# Altium footprint library SOD.PcbLib: 4 footprints
Each footprint in its own frame and in the unit in brackets; x right, y up, seen from the top. Pads: shape width x height; smd on the part's side, far side on the other; paste and mask are expansions set on the pad; w line width, h text height; cw(c..) or ccw(c..) is an arc to the next point about the centre after c.
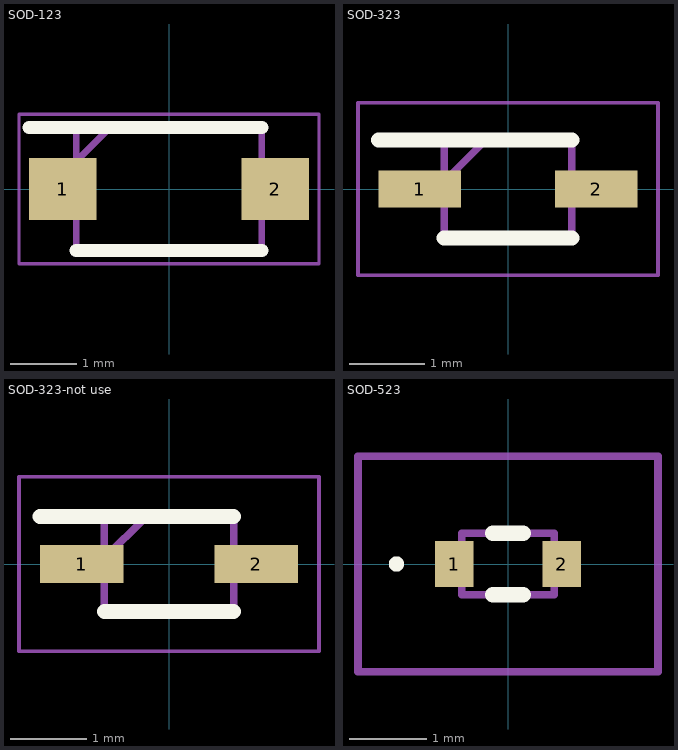
[diagram p0: the footprints below, top view; thin cyan lines are the x and y axes]

## SOD-123 [mm]
pads (2):
  rect 1.02x0.94 smd: 1(-1.6,0) 2(1.6,0)
Top Overlay:
  lines w0.2: -2.11,0.925 1.4,0.925 ; -1.4,-0.925 1.4,-0.925
BOAS 13:
  lines w0.1: -1.4,0.415 -0.89,0.925 ; -1.4,-0.925 1.4,-0.925 1.4,0.925 -1.4,0.925 -1.4,-0.925
Bottom Component Outline:
  lines w0.05: -2.26,-1.125 2.26,-1.125 2.26,1.125 -2.26,1.125 -2.26,-1.125
3D body "1N5817W-T.stp": height 1.35, standoff 0, extent -1.85,-0.925 1.85,0.925

## SOD-323 [mm]
pads (2):
  rect 1.1x0.5 smd: 1(-1.175,0) 2(1.175,0)
Top Overlay:
  lines w0.2: -1.725,0.65 0.85,0.65 ; -0.85,-0.65 0.85,-0.65
BOAS 13:
  lines w0.1: -0.85,0.1 -0.3,0.65 ; -0.85,-0.65 -0.85,0.65 0.85,0.65 0.85,-0.65 -0.85,-0.65
Bottom Component Outline:
  lines w0.05: -2,-1.15 -2,1.15 2,1.15 2,-1.15 -2,-1.15
3D body "B5819WS.stp": height 1, standoff 0, extent -1.3,-0.65 1.3,0.65

## SOD-323-not use [mm]
pads (2):
  rect 1.1x0.5 smd: 1(-1.15,0) 2(1.15,0)
Top Overlay:
  lines w0.2: -1.7,0.625 0.85,0.625 ; -0.85,-0.625 0.85,-0.625
BOAS 13:
  lines w0.1: -0.85,0.075 -0.3,0.625 ; -0.85,-0.625 0.85,-0.625 0.85,0.625 -0.85,0.625 -0.85,-0.625
Bottom Component Outline:
  lines w0.05: -1.975,-1.15 1.975,-1.15 1.975,1.15 -1.975,1.15 -1.975,-1.15
3D body "BAT760,115.stp": height 0.93, standoff 0, extent -1.244,-0.623 1.245,0.627

## SOD-523 [mm]
pads (2):
  rect 0.5x0.6 smd: 1(-0.7,0) 2(0.7,0)
Top Overlay:
  lines w0.1: -1.5,0 cw(c-1.45,0) -1.4,0 cw(c-1.45,0) -1.5,0
  lines w0.2: -0.2,-0.4 0.2,-0.4 ; -0.2,0.4 0.2,0.4
BOAS 13:
  lines w0.1: -0.6,-0.4 0.6,-0.4 0.6,0.4 -0.6,0.4 -0.6,-0.4
Bottom Component Outline:
  lines w0.1: -1.95,-1.4 1.95,-1.4 1.95,1.4 -1.95,1.4 -1.95,-1.4
3D body "RB521S30,115.stp": height 0.62, standoff 0, extent -0.8,-0.43 0.8,0.4